# Altium schematic symbol library Schlib1.SchLib: 10 symbols
Pins are listed as number, name and electrical type; pins without a type are passive.

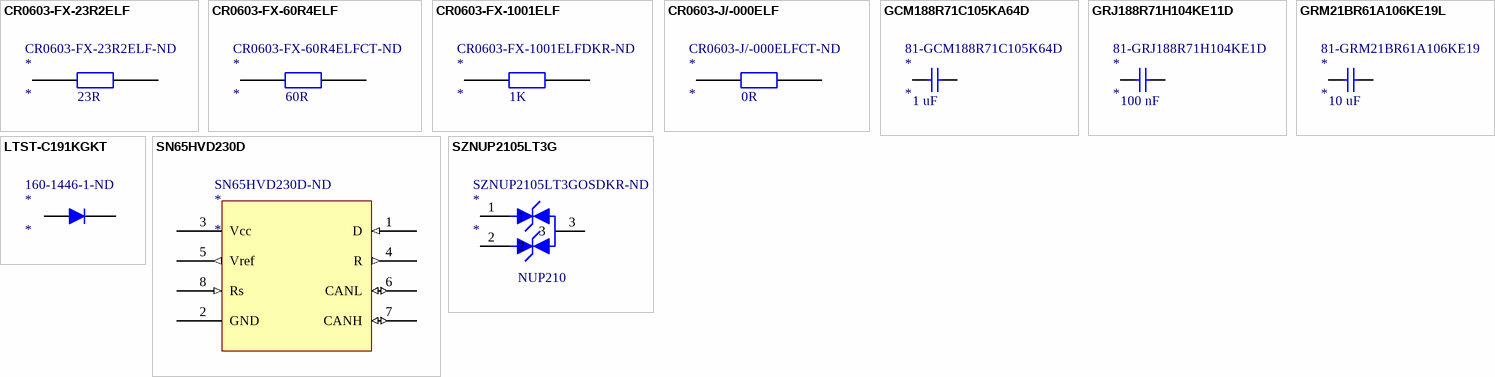
[diagram p0: symbols CR0603-FX-23R2ELF to SZNUP2105LT3G]

## CR0603-FX-23R2ELF
designator *  Supplier Part Number 1: CR0603-FX-23R2ELF-ND
RES SMD 23.2 OHM 1% 1/10W 0603; Manufacturer: Bourns Inc.; Manufacturer Part Number: CR0603-FX-23R2ELF; Resistance (Ohms): 23.2; Power (Watts): 0.1W, 1/10W; Temperature Coefficient: ±100ppm/°C; Supplier 1: Digi-Key; RoHS: RoHS Compliant; Category: Resistors; Stock 1: 0; Pricing 1: 25000=0.00659 (AUD); Packaging: Tape & Reel (TR); Tolerance: ±1%; Composition: Thick Film; Features: Moisture Resistant; Operating Temperature: -55°C ~ 155°C; Package / Case: 0603 (1608 Metric); Supplier Device Package: 0603; Size / Dimension: 0.063" L x 0.031" W (1.60mm x 0.80mm); Height: 0.022" (0.55mm); Number of Terminations: 2; ComponentLink1URL: http://www.bourns.com/docs/Product-Datasheets/CHPREZTR.pdf; ComponentLink1Description: http://www.bourns.com/docs/Product-Datasheets/CHPREZTR.pdf
footprint RESC1608 (Chip Resistor, 1.6mm x 0.8mm x ?mm (0603))
pins: 1 "Mode select pin", 2 "Mode select pin"
text: 23R

## CR0603-FX-60R4ELF
designator *  Supplier Part Number 1: CR0603-FX-60R4ELFCT-ND
RES SMD 60.4 OHM 1% 1/10W 0603; Manufacturer: Bourns Inc.; Manufacturer Part Number: CR0603-FX-60R4ELF; Resistance (Ohms): 60.4; Power (Watts): 0.1W, 1/10W; Temperature Coefficient: ±100ppm/°C; Supplier 1: Digi-Key; RoHS: RoHS Compliant; Category: Resistors; Stock 1: 21305; Pricing 1: 1=0.14, 10=0.065, 25=0.0472, 50=0.036, 100=0.0266, 250=0.02024, 500=0.01618, 1000=0.01193, 2500=0.01035 (AUD); Packaging: Cut Tape (CT); Tolerance: ±1%; Composition: Thick Film; Features: Moisture Resistant; Operating Temperature: -55°C ~ 155°C; Package / Case: 0603 (1608 Metric); Supplier Device Package: 0603; Size / Dimension: 0.063" L x 0.031" W (1.60mm x 0.80mm); Height: 0.022" (0.55mm); Number of Terminations: 2; ComponentLink1URL: http://www.bourns.com/docs/Product-Datasheets/CHPREZTR.pdf; ComponentLink1Description: http://www.bourns.com/docs/Product-Datasheets/CHPREZTR.pdf
footprint RESC1608 (Chip Resistor, 1.6mm x 0.8mm x ?mm (0603))
pins: 1 "Mode select pin", 2 "Mode select pin"
text: 60R

## CR0603-FX-1001ELF
designator *  Supplier Part Number 1: CR0603-FX-1001ELFDKR-ND
RES SMD 1K OHM 1% 1/10W 0603; Manufacturer: Bourns Inc.; Manufacturer Part Number: CR0603-FX-1001ELF; Power (Watts): 0.1W, 1/10W; Temperature Coefficient: ±100ppm/°C; Supplier 1: Digi-Key; RoHS: RoHS Compliant; Category: Resistors; Stock 1: 28425; Pricing 1: 1=0.14, 10=0.065, 25=0.0472, 50=0.036, 100=0.0266, 250=0.02024, 500=0.01618, 1000=0.01193, 2500=0.01035 (AUD); Packaging: Digi-Reel®; Resistance (Ohms): 1k; Tolerance: ±1%; Composition: Thick Film; Features: Moisture Resistant; Operating Temperature: -55°C ~ 155°C; Package / Case: 0603 (1608 Metric); Supplier Device Package: 0603; Size / Dimension: 0.063" L x 0.031" W (1.60mm x 0.80mm); Height: 0.022" (0.55mm); Number of Terminations: 2; ComponentLink1URL: http://www.bourns.com/docs/Product-Datasheets/CHPREZTR.pdf; ComponentLink1Description: http://www.bourns.com/docs/Product-Datasheets/CHPREZTR.pdf
footprint RESC1608 (Chip Resistor, 1.6mm x 0.8mm x ?mm (0603))
pins: 1 "Mode select pin", 2 "Mode select pin"
text: 1K

## CR0603-J/-000ELF
designator *  Supplier Part Number 1: CR0603-J/-000ELFCT-ND
RES SMD 0.0OHM JUMPER 1/10W 0603; Manufacturer: Bourns Inc.; Manufacturer Part Number: CR0603-J/-000ELF; Resistance (Ohms): 0.0; Power (Watts): 0.1W, 1/10W; Supplier 1: Digi-Key; RoHS: RoHS Compliant; Category: Resistors; Stock 1: 187342; Pricing 1: 1=0.14, 10=0.041, 25=0.0296, 50=0.0224, 100=0.0166, 250=0.01268, 500=0.01012, 1000=0.00746, 2500=0.00647 (AUD); Packaging: Cut Tape (CT); Tolerance: Jumper; Composition: Thick Film; Features: Moisture Resistant; Temperature Coefficient: -; Operating Temperature: -55°C ~ 155°C; Package / Case: 0603 (1608 Metric); Supplier Device Package: 0603; Size / Dimension: 0.063" L x 0.031" W (1.60mm x 0.80mm); Height: 0.022" (0.55mm); Number of Terminations: 2; ComponentLink1URL: http://www.bourns.com/docs/Product-Datasheets/CHPREZTR.pdf; ComponentLink1Description: http://www.bourns.com/docs/Product-Datasheets/CHPREZTR.pdf
footprint RESC1608 (Chip Resistor, 1.6mm x 0.8mm x ?mm (0603))
pins: 1 "Mode select pin", 2 "Mode select pin"
text: 0R

## GCM188R71C105KA64D
designator *  Supplier Part Number 1: 81-GCM188R71C105K64D
Multilayer Ceramic Capacitors MLCC - SMD/SMT 0603 1.0uF 16volts X7R 10%; Manufacturer: Murata Electronics; Manufacturer Part Number: GCM188R71C105KA64D; Capacitance: 1 uF; Voltage Rating DC: 16 V; Supplier 1: Mouser; RoHS: RoHS Compliant; Category: Multilayer Ceramic Capacitors MLCC - SMD/SMT; Stock 1: 196143; Pricing 1: 1=0.432, 10=0.206, 100=0.122, 1000=0.114, 4000=0.080, 8000=0.077, 24000=0.074, 48000=0.069, 100000=0.061 (AUD); Height: 0.8 mm; Length: 1.6 mm; Package / Case: 0603 (1608 metric); Packaging: Reel; Product: Automotive MLCCs; Series: GCM; Termination Style: SMD/SMT; Tolerance: 10 %; Type: Automotive Ultra Small MLCC; Width: 0.8 mm; Brand: Murata Electronics; Case Code - in: 0603; Case Code - mm: 1608; Dielectric: X7R; Maximum Operating Temperature: + 125 C; Minimum Operating Temperature: - 55 C; Product Category: Automotive Ceramic Chip Capacitors; Standard Pack Qty: 4000; RoHS - Mouser: Y; Minimum Order Quantity: 1; Reeling: True; ComponentLink1URL: http://www.mouser.com/ds/2/281/c03e-516224.pdf; ComponentLink1Description: http://www.mouser.com/ds/2/281/c03e-516224.pdf
footprint CAPC1608 (Chip Capacitor, Non Polarised 1.6mm x 0.8mm x ?mm (0603))
pins: 1, 2

## GRJ188R71H104KE11D
designator *  Supplier Part Number 1: 81-GRJ188R71H104KE1D
Multilayer Ceramic Capacitors MLCC - SMD/SMT 0603 0.10uF 50volts X7R +/-10% Soft Term; Manufacturer: Murata Electronics; Manufacturer Part Number: GRJ188R71H104KE11D; Capacitance: 0.1 uF; Tolerance: 10 %; Voltage Rating DC: 50 V; Class: Class 2; Product Status: New Product; Supplier 1: Mouser; RoHS: RoHS Compliant; Category: Multilayer Ceramic Capacitors MLCC - SMD/SMT; Stock 1: 12349; Pricing 1: 1=0.208, 10=0.085, 100=0.050, 1000=0.040, 4000=0.029, 8000=0.027, 48000=0.024, 100000=0.021 (AUD); Diameter: -; Height: 0.8 mm; Length: 1.6 mm; Package / Case: 0603 (1608 metric); Packaging: Reel; Product: General Type MLCCs; Series: GRJ; Termination Style: SMD/SMT; Type: Chip Monolithic Ceramic Capacitors; Width: 0.8 mm; Brand: Murata Electronics; Case Code - in: 0603; Case Code - mm: 1608; Dielectric: X7R; Maximum Operating Temperature: + 125 C; Minimum Operating Temperature: - 55 C; RoHS - Mouser: Y; Minimum Order Quantity: 1; Reeling: True; ComponentLink1URL: http://www.mouser.com/ds/2/281/c02e-2905.pdf; ComponentLink1Description: http://www.mouser.com/ds/2/281/c02e-2905.pdf
footprint CAPC1608 (Chip Capacitor, Non Polarised 1.6mm x 0.8mm x ?mm (0603))
pins: 1, 2
text: 100 nF

## GRM21BR61A106KE19L
designator *  Supplier Part Number 1: 81-GRM21BR61A106KE19
Multilayer Ceramic Capacitors MLCC - SMD/SMT 0805 10uF 10volts X5R 10%; Manufacturer: Murata Electronics; Manufacturer Part Number: GRM21BR61A106KE19L; Voltage Rating DC: 10 V; Supplier 1: Mouser; RoHS: RoHS Compliant; Category: Multilayer Ceramic Capacitors MLCC - SMD/SMT; Stock 1: 213958; Pricing 1: 1=0.304, 10=0.133, 100=0.080, 1000=0.067, 3000=0.050, 9000=0.048, 24000=0.045, 45000=0.042, 99000=0.035 (AUD); Capacitance: 10 uF; Height: 1.25 mm; Length: 2 mm; Package / Case: 0805 (2012 metric); Packaging: Reel; Product: General Type MLCCs; Series: GRM; Termination Style: SMD/SMT; Tolerance: 10 %; Type: General Purpose MLCC; Width: 1.25 mm; Brand: Murata Electronics; Case Code - in: 0805; Case Code - mm: 2012; Dielectric: X5R; Maximum Operating Temperature: + 85 C; Minimum Operating Temperature: - 55 C; Product Category: High Capacitance SMD Ceramic Chip Capacitors; Standard Pack Qty: 3000; RoHS - Mouser: Y; Minimum Order Quantity: 1; Reeling: True; ComponentLink1URL: http://www.mouser.com/ds/2/281/c02e-2905.pdf; ComponentLink1Description: http://www.mouser.com/ds/2/281/c02e-2905.pdf
footprint CAPC2012 (Chip Capacitor, Non Polarised 2.0mm x 1.2mm x ?mm (0805))
pins: 1, 2

## LTST-C191KGKT
designator *  Supplier Part Number 1: 160-1446-1-ND
LED GREEN CLEAR 0603 SMD; Manufacturer: Lite-On Inc.; Manufacturer Part Number: LTST-C191KGKT; Wavelength - Dominant: 571nm; Wavelength - Peak: 574nm; Millicandela Rating: 35mcd; Voltage - Forward (Vf) (Typ): 2V; Current - Test: 20mA; Viewing Angle: 130°; Lens Color: Colorless; Lens Style/Size: Rectangle with Flat Top, 1.10mm x 0.80mm; Supplier 1: Digi-Key; RoHS: RoHS Compliant; Category: Optoelectronics; Stock 1: 654931; Pricing 1: 1=0.36, 10=0.284, 100=0.1549, 250=0.10328, 500=0.08778, 1000=0.06712, 2500=0.06067 (AUD); Packaging: Cut Tape (CT); Color: Green; Lens Transparency: Clear; Package / Case: 0603 (1608 Metric); Supplier Device Package: *; Size / Dimension: 1.60mm L x 0.80mm W; Height (Max): 0.55mm; Mounting Type: Surface Mount; ComponentLink1URL: http://optoelectronics.liteon.com/upload/download/DS22-2000-228/S_110_LTST-C191KGKT.pdf; ComponentLink1Description: http://optoelectronics.liteon.com/upload/download/DS22-2000-228/S_110_LTST-C191KGKT.pdf
footprint LEDC1608M_AK (LED, Chip, 0603)
pins: A, K

## SN65HVD230D
designator *  Supplier Part Number 1: SN65HVD230D-ND
IC CAN TRANSCEIVER 3.3V 8-SOIC; Manufacturer: Texas Instruments; Manufacturer Part Number: SN65HVD230D; Number of Drivers/Receivers: 1/1; Duplex: Half; Receiver Hysteresis: 100mV; Data Rate: 1Mbps; Voltage - Supply: 3 V ~ 3.6 V; Supplier 1: Digi-Key; RoHS: RoHS Compliant; Category: Integrated Circuits (ICs); Stock 1: 2539; Pricing 1: 1=4.08, 10=3.678, 25=3.1952, 50=2.9962, 100=2.9536, 250=2.627, 500=2.2294, 750=2.0164, 1000=1.5975 (AUD); Packaging: Tube; Type: Transceiver; Protocol: CAN; Operating Temperature: -40°C ~ 85°C; Mounting Type: Surface Mount; Package / Case: 8-SOIC (0.154", 3.90mm Width); Supplier Device Package: 8-SOIC; ComponentLink1URL: http://www.ti.com/lit/ds/symlink/sn65hvd230.pdf; ComponentLink1Description: http://www.ti.com/lit/ds/symlink/sn65hvd230.pdf
footprint SOIC127P580-8N
pins: 1 D (in) "TXD", 2 GND (power), 3 Vcc (power), 4 R (out) "RXD", 5 Vref (out) "NC on 232", 6 CANL (io), 7 CANH (io), 8 Rs (in) "Mode select pin"

## SZNUP2105LT3G
designator *  Supplier Part Number 1: SZNUP2105LT3GOSDKR-ND
TVS DIODE 24VWM 44VC SOT23; Manufacturer: ON Semiconductor; Manufacturer Part Number: SZNUP2105LT3G; Bidirectional Channels: 2; Voltage - Reverse Standoff (Typ): 24V (Min); Voltage - Breakdown (Min): 26.2V; Voltage - Clamping (Max) @ Ipp: 44V; Current - Peak Pulse (10/1000µs): 8A (8/20µs); Power - Peak Pulse: 350W; Power Line Protection: No; Capacitance @ Frequency: 30pF @ 1MHz; Supplier 1: Digi-Key; RoHS: RoHS Compliant; Category: Circuit Protection; Stock 1: 3956; Pricing 1: 1=0.58, 10=0.498, 100=0.3726, 500=0.2927, 1000=0.22564 (AUD); Packaging: Digi-Reel®; Type: Zener; Unidirectional Channels: -; Applications: Automotive; Operating Temperature: -55°C ~ 150°C (TJ); Mounting Type: Surface Mount; Package / Case: TO-236-3, SC-59, SOT-23-3; Supplier Device Package: SOT-23-3 (TO-236); ComponentLink1URL: http://www.onsemi.com/pub_link/Collateral/NUP2105L-D.PDF; ComponentLink1Description: http://www.onsemi.com/pub_link/Collateral/NUP2105L-D.PDF
footprint SOT23_A2A1K
pins: 1, 2, 3
text: NUP210